# Altium integrated library Other.IntLib: 4 symbols
Pins are listed as number, name and electrical type; pins without a type are passive.

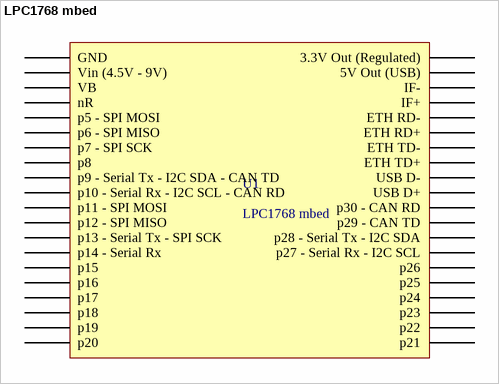
[diagram p0: symbol LPC1768 mbed]

## LPC1768 mbed
designator U1
footprint LPC 1768 mbed Layout
pins: 1 GND, 2 Vin (4.5V - 9V), 3 VB, 4 nR, 5 p5 - SPI MOSI, 6 p6 - SPI MISO, 7 p7 - SPI SCK, 8 p8, 9 p9 - Serial Tx - I2C SDA - CAN TD, 10 p10 - Serial Rx - I2C SCL - CAN RD, 11 p11 - SPI MOSI, 12 p12 - SPI MISO, 13 p13 - Serial Tx - SPI SCK, 14 p14 - Serial Rx, 15 p15, 16 p16, 17 p17, 18 p18, 19 p19, 20 p20, 21 p21, 22 p22, 23 p23, 24 p24, 25 p25, 26 p26, 27 p27 - Serial Rx - I2C SCL, 28 p28 - Serial Tx - I2C SDA, 29 p29 - CAN TD, 30 p30 - CAN RD, 31 USB D+, 32 USB D-, 33 ETH TD+, 34 ETH TD-, 35 ETH RD+, 36 ETH RD-, 37 IF+, 38 IF-, 39 5V Out (USB), 40 3.3V Out (Regulated)


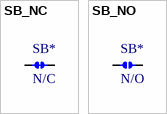
[diagram p1: symbols SB_NC to SB_NO]

## SB_NC
designator SB*, comment N/C  (no BOM)
Solder Bridge, Normally Closed
footprint SB_NC (Solder Bridge, Normally Closed)
pins: 1, 2

## SB_NO
designator SB*, comment N/O  (no BOM)
Solder Bridge, Normally Open
footprint SB_NO (Solder Bridge, Normally Open)
footprint SB_ARROW_NC (Solder Bridge Arrow, Normally Open)
pins: 1, 2


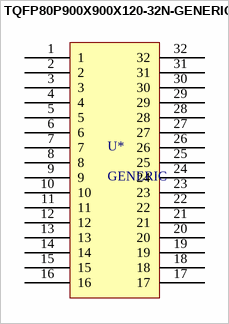
[diagram p2: symbol TQFP80P900X900X120-32N-GENERIC]

## TQFP80P900X900X120-32N-GENERIC
designator U*, comment GENERIC
footprint TQFP80P900X900X120-32N-GENERIC (TQFP, 32-Leads, Body 7.00x7.00mm, Pitch 0.80mm, IPC Medium Density)
pins: 1, 2, 3, 4, 5, 6, 7, 8, 9, 10, 11, 12, 13, 14, 15, 16, 17, 18, 19, 20, 21, 22, 23, 24, 25, 26, 27, 28, 29, 30, 31, 32